# Altium schematic symbol library Conn_Molex_53048-0710_eec.SchLib: 1 symbol
Pins are listed as number, name and electrical type; pins without a type are passive.

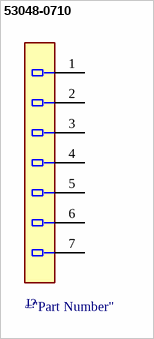
[diagram p0: symbol 53048-0710]

## 53048-0710
designator J?  (value not drawn)
pins: 1, 2, 3, 4, 5, 6, 7